# Altium schematic symbol library Skayboard.SchLib: 4 symbols
Pins are listed as number, name and electrical type; pins without a type are passive.

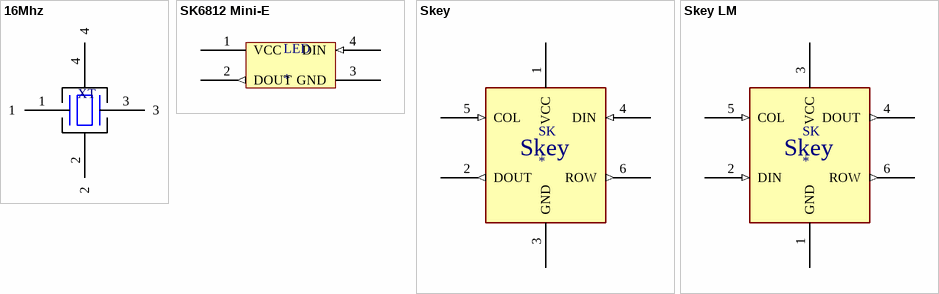
[diagram p0: symbols 16Mhz to Skey LM]

## 16Mhz
designator XT  (value not drawn)
LCSC didn't have the footprint
footprint 16Mhz
pins: 1, 2, 3, 4

## SK6812 Mini-E
designator LED
footprint SK6812 Mini-E
pins: 1 VCC (power), 2 DOUT (out), 3 GND (power), 4 DIN (in)

## Skey
designator SK
Skaytacium's keyboard's key's symbol
footprint MX RGB (Skey's footprint)
pins: 1 VCC, 2 DOUT (out), 3 GND, 4 DIN (in), 5 COL (in), 6 ROW (out)

## Skey LM
designator SK
Skey but the LED is mirrored
footprint MX RGB LM (Skey's footprint)
pins: 1 GND, 2 DIN (in), 3 VCC, 4 DOUT (out), 5 COL (in), 6 ROW (out)
text: Skey